# EAGLE library part PMDT670UPE (library matt)
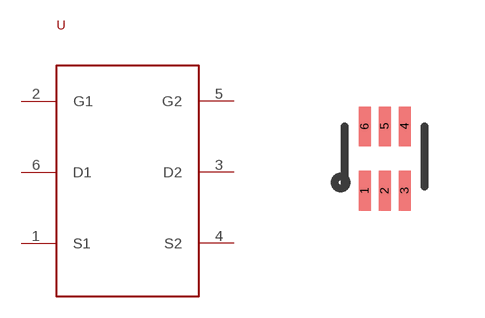
[diagram p8: symbol with the pads of SOT666; footprint SOT666]

Designator prefix -

## PMDT670UPE  [SOT666]
1  S1
2  G1
3  D2
4  S2
5  G2
6  D1

## Footprint SOT666 (pad centres in mm)
smd 0.3 x 0.99: 1 0,0; 2 0.5,0; 3 1,0; 4 1,1.61; 5 0.5,1.61; 6 0,1.61